# Altium integrated library Analog Devices Data Converters Digital-to-Analog Converters.IntLib: 2231 symbols (part 55 of 181)
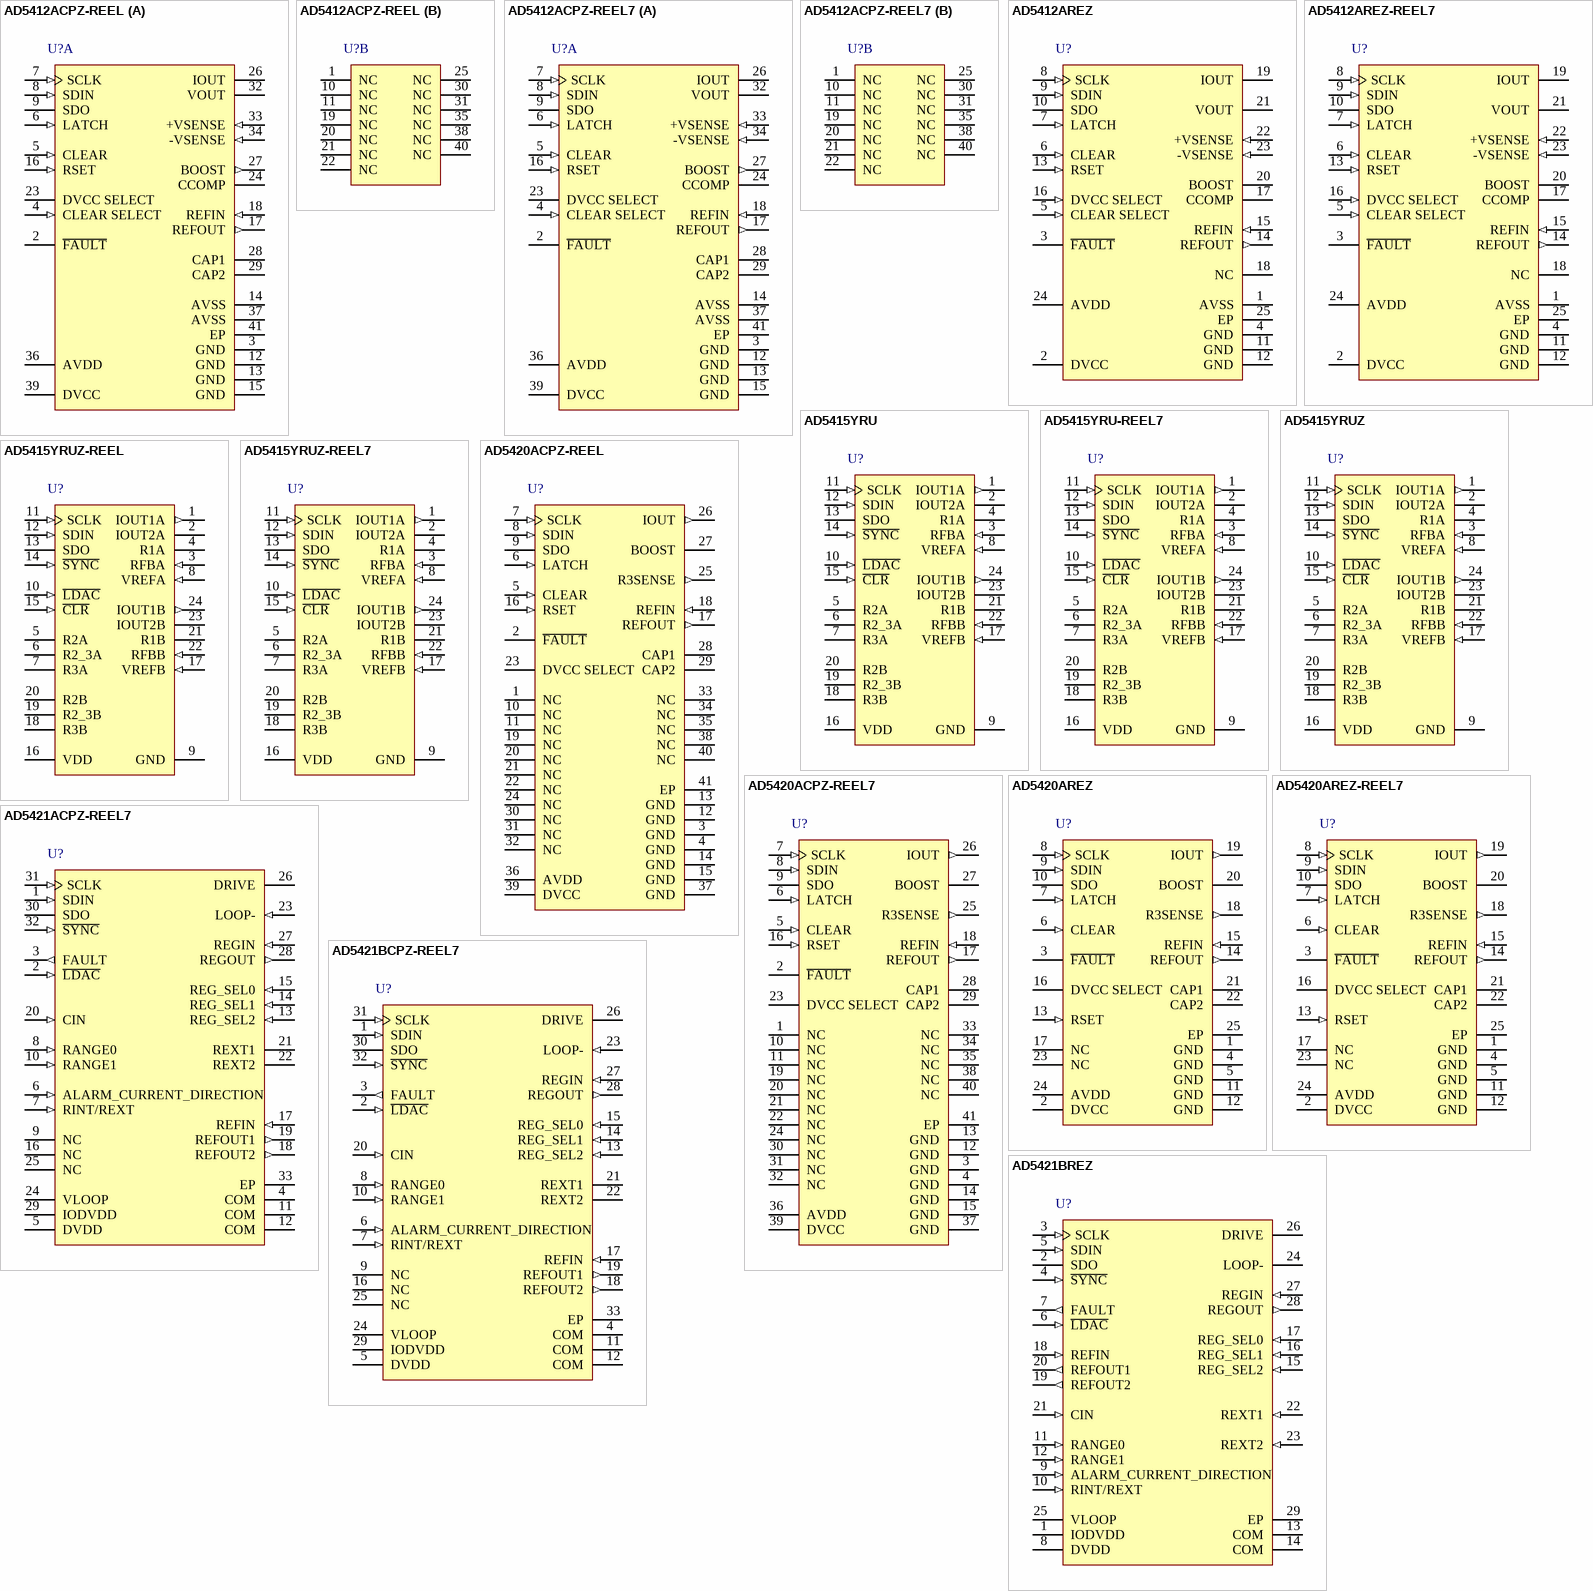
[diagram p168: symbols AD5412ACPZ-REEL to AD5421BREZ]

## AD5421ACPZ-REEL7
designator U?
Single 16-Bit Loop-Powered Digital-to-Analog Converter with Serial Interface, 4 to 20 mA, -40 to +105 degC, CP-32-11, Pb-Free, Reel; Generic Part Number: AD5421; Manufacturer: Analog Devices; PartNumber: AD5421ACPZ-REEL7; # DAC Outputs: 1; Max V+: 52V; Op Pwr Diss: 1.43mW; Resolution (Bits): 16; Settling Time: 50µs; Single Supply: Yes; DatasheetVersion: Rev.D; PackageVersion: 011708-A; PackageReference: CP-32-11; PackageDescription: 32-Lead Lead Frame Chip Scale Package [LFCSP_VQ] 5 x 5 mm Body, Very Thin Quad; Supplier 1: Digi-Key; Supplier Part Number 1: AD5421ACPZ-REEL7TR-ND; Supplier 2: Digi-Key; Supplier Part Number 2: AD5421ACPZ-REEL7CT-ND; Supplier 3: Digi-Key; Supplier Part Number 3: AD5421ACPZ-REEL7DKR-ND; Supplier 4: Farnell; Supplier Part Number 4: 2081042; Supplier 5: Newark; Supplier Part Number 5: 92T3206; Supplier 6: Newark; Supplier Part Number 6: 82T3694; Supplier 7: Mouser; Supplier Part Number 7: 584-AD5421ACPZ-R7; Packing: Reel; RoHS: Y; Mounting Technology: Surface Mount; ComponentLink1Description: Manufacturer URL; ComponentLink1URL: http://www.analog.com/en/index.html; ComponentLink2Description: Datasheet; ComponentLink2URL: http://www.analog.com/static/imported-files/data_sheets/AD5421.pdf; ComponentLink3Description: Package Specification; ComponentLink3URL: http://www.analog.com/static/imported-files/packages/PKG_PDF/LFCSP(CP)/CP-32/CP_32_11.pdf; ComponentLink4Description: Product URL; ComponentLink4URL: http://www.analog.com/en/digital-to-analog-converters/da-converters/ad5421/products/product.html
footprint CP-32-11_N (QFN, 32-Leads, Body 5x5mm, Pitch 0.5mm, Thermal Pad 3.6x3.6mm, IPC Medium Density)
footprint CP-32-11_L (QFN, 32-Leads, Body 5x5mm, Pitch 0.5mm, Thermal Pad 3.6x3.6mm, IPC High Density)
footprint CP-32-11_M (QFN, 32-Leads, Body 5x5mm, Pitch 0.5mm, Thermal Pad 3.6x3.6mm, IPC Low Density)
pins: 1 SDIN (in) "Serial Data Input. Data must be valid on the falling edge of SCLK.", 2 ~{LDAC} (in) "Load DAC Input, Active Low. This pin is used to update the DAC register and, consequently, the output current. If L\D\A\C\ is tied permanently low, the DAC register is updated on the rising edge of S\Y\N\C\. If L\D\A\C\ is (See Datasheet)", 3 FAULT (out) "Fault Alert Output Pin, Active High. This pin is asserted high when a fault is detected. Detectable faults are loss of SPI interface control, communication error (PEC), loop current out of range, insufficient loop voltage, (See Datasheet)", 4 COM (power) "Ground Reference Pin for the AD5421. It is recommended that a 4.7 V Zener diode be placed between the LOOP- and COM pins. See the Applications Information section for more information.", 5 DVDD (power) "3.3 V Digital Power Supply Output. This pin should be decoupled to COM with 100 nF and 4.7 uF capacitors.", 6 ALARM_CURRENT_DIRECTION (in) "Alarm Current Direction Select. This pin is used to select whether the alarm current is upscale (22.8 mA/24 mA) or downscale (3.2 mA). Connecting this pin to DVDD selects an upscale alarm current (22.8 mA/24 mA); connecting (See Datasheet)", 7 RINT/REXT (in) "Current Setting Resistor Select. When this pin is connected to DVDD, the internal current setting resistor is selected. When this pin is connected to COM, the external current setting resistor is selected. An external (See Datasheet)", 8 RANGE0 (in) "Digital Input Pins. These two pins select the loop current range (see the Loop Current Range Selection section).", 9 NC "No Connect. Do not connect to this pin.", 10 RANGE1 (in) "Digital Input Pins. These two pins select the loop current range (see the Loop Current Range Selection section).", 11 COM (power) "Ground Reference Pin for the AD5421. It is recommended that a 4.7 V Zener diode be placed between the LOOP- and COM pins. See the Applications Information section for more information.", 12 COM (power) "Ground Reference Pin for the AD5421. It is recommended that a 4.7 V Zener diode be placed between the LOOP- and COM pins. See the Applications Information section for more information.", 13 REG_SEL2 (in) "This pin together select the regulator output (REGOUT) voltage (see the Voltage Regulator section).", 14 REG_SEL1 (in) "This pin together select the regulator output (REGOUT) voltage (see the Voltage Regulator section).", 15 REG_SEL0 (in) "This pin together select the regulator output (REGOUT) voltage (see the Voltage Regulator section).", 16 NC "No Connect. Do not connect to this pin.", 17 REFIN (in) "Reference Voltage Input. VREFIN = 2.5 V for specified performance.", 18 REFOUT2 (out) "Internal Reference Voltage Output (1.22 V). It is recommended to connect a 100 nF capacitor from this pin to COM.", 19 REFOUT1 (out) "Internal Reference Voltage Output (2.5 V). It is recommended to connect a 100 nF capacitor from this pin to COM.", 20 CIN (in) "External Capacitor Connection and HART FSK Input. An external capacitor connected from CIN to COM implements an output slew rate control function (see the Loop Current Slew Rate Control section). HART FSK signaling can also (See Datasheet)", 21 REXT1 "Connection for External Current Setting Resistor. A precision 24 k ohm resistor can be connected between these pins for improved performance.", 22 REXT2 "Connection for External Current Setting Resistor. A precision 24 k ohm resistor can be connected between these pins for improved performance.", 23 LOOP- (in) "Loop Current Return Pin.", 24 VLOOP (power) "Voltage Input Pin. Voltage input range is 0 V to 2.5 V. The voltage applied to this pin is digitized to eight bits, which are available in the fault register. This pin can be used for general-purpose voltage monitoring, but (See Datasheet)", 25 NC "No Connect. Do not connect to this pin.", 26 DRIVE "Gate Connection for External Depletion Mode MOSFET. For more information, see the Connection to Loop Power Supply section.", 27 REGIN (in) "Voltage Regulator Input. The loop voltage can be connected directly to this pin. Or, to reduce on-chip power dissipation, an external pass transistor can be connected at this pin to stand off the loop voltage. For more (See Datasheet)", 28 REGOUT (out) "Voltage Regulator Output. Pin selectable values are from 1.8 V to 12 V via the REG_SEL0, REG_SEL1, and REG_SEL2 pins (see the Voltage Regulator section).", 29 IODVDD (power) "Digital Interface Supply Pin. Digital thresholds are referenced to the voltage applied to this pin. A voltage from 1.71 V to 5.5 V can be applied to this pin.", 30 SDO (hiz) "Serial Data Output. Used to clock data from the input shift register. Data is clocked out on the rising edge of SCLK and is valid on the falling edge of SCLK.", 31 SCLK (in) "Serial Clock Input. Data is clocked into the input shift register on the falling edge of SCLK. This input operates at clock speeds up to 30 MHz.", 32 ~{SYNC} (in) "Frame Synchronization Input, Active Low. This is the frame synchronization signal for the serial interface. When S\Y\N\C\ is low, data is transferred on the falling edge of SCLK. The input shift register data is latched on (See Datasheet)", 33 EP (power) "The exposed paddle should be connected to the same potential as the COM pin and to a copper plane for optimum thermal performance."

## AD5421BCPZ-REEL7
designator U?
Single 16-Bit Loop-Powered Digital-to-Analog Converter with Serial Interface, 4 to 20 mA, -40 to +105 degC, CP-32-11, Pb-Free, Reel; Generic Part Number: AD5421; Manufacturer: Analog Devices; PartNumber: AD5421BCPZ-REEL7; # DAC Outputs: 1; Max V+: 52V; Op Pwr Diss: 1.43mW; Resolution (Bits): 16; Settling Time: 50µs; Single Supply: Yes; DatasheetVersion: Rev.D; PackageVersion: 011708-A; PackageReference: CP-32-11; PackageDescription: 32-Lead Lead Frame Chip Scale Package [LFCSP_VQ] 5 x 5 mm Body, Very Thin Quad; Supplier 1: Digi-Key; Supplier Part Number 1: AD5421BCPZ-REEL7TR-ND; Supplier 2: Digi-Key; Supplier Part Number 2: AD5421BCPZ-REEL7CT-ND; Supplier 3: Digi-Key; Supplier Part Number 3: AD5421BCPZ-REEL7DKR-ND; Supplier 4: Farnell; Supplier Part Number 4: 2081041; Supplier 5: Farnell; Supplier Part Number 5: 2371516; Supplier 6: Newark; Supplier Part Number 6: 82T3695; Supplier 7: Newark; Supplier Part Number 7: 92T3207; Supplier 8: Mouser; Supplier Part Number 8: 584-AD5421BCPZ-R7; Packing: Reel; RoHS: Y; Mounting Technology: Surface Mount; ComponentLink1Description: Manufacturer URL; ComponentLink1URL: http://www.analog.com/en/index.html; ComponentLink2Description: Datasheet; ComponentLink2URL: http://www.analog.com/static/imported-files/data_sheets/AD5421.pdf; ComponentLink3Description: Package Specification; ComponentLink3URL: http://www.analog.com/static/imported-files/packages/PKG_PDF/LFCSP(CP)/CP-32/CP_32_11.pdf; ComponentLink4Description: Product URL; ComponentLink4URL: http://www.analog.com/en/digital-to-analog-converters/da-converters/ad5421/products/product.html
footprint CP-32-11_N (QFN, 32-Leads, Body 5x5mm, Pitch 0.5mm, Thermal Pad 3.6x3.6mm, IPC Medium Density)
footprint CP-32-11_L (QFN, 32-Leads, Body 5x5mm, Pitch 0.5mm, Thermal Pad 3.6x3.6mm, IPC High Density)
footprint CP-32-11_M (QFN, 32-Leads, Body 5x5mm, Pitch 0.5mm, Thermal Pad 3.6x3.6mm, IPC Low Density)
pins: 1 SDIN (in) "Serial Data Input. Data must be valid on the falling edge of SCLK.", 2 ~{LDAC} (in) "Load DAC Input, Active Low. This pin is used to update the DAC register and, consequently, the output current. If L\D\A\C\ is tied permanently low, the DAC register is updated on the rising edge of S\Y\N\C\. If L\D\A\C\ is (See Datasheet)", 3 FAULT (out) "Fault Alert Output Pin, Active High. This pin is asserted high when a fault is detected. Detectable faults are loss of SPI interface control, communication error (PEC), loop current out of range, insufficient loop voltage, (See Datasheet)", 4 COM (power) "Ground Reference Pin for the AD5421. It is recommended that a 4.7 V Zener diode be placed between the LOOP- and COM pins. See the Applications Information section for more information.", 5 DVDD (power) "3.3 V Digital Power Supply Output. This pin should be decoupled to COM with 100 nF and 4.7 uF capacitors.", 6 ALARM_CURRENT_DIRECTION (in) "Alarm Current Direction Select. This pin is used to select whether the alarm current is upscale (22.8 mA/24 mA) or downscale (3.2 mA). Connecting this pin to DVDD selects an upscale alarm current (22.8 mA/24 mA); connecting (See Datasheet)", 7 RINT/REXT (in) "Current Setting Resistor Select. When this pin is connected to DVDD, the internal current setting resistor is selected. When this pin is connected to COM, the external current setting resistor is selected. An external (See Datasheet)", 8 RANGE0 (in) "Digital Input Pins. These two pins select the loop current range (see the Loop Current Range Selection section).", 9 NC "No Connect. Do not connect to this pin.", 10 RANGE1 (in) "Digital Input Pins. These two pins select the loop current range (see the Loop Current Range Selection section).", 11 COM (power) "Ground Reference Pin for the AD5421. It is recommended that a 4.7 V Zener diode be placed between the LOOP- and COM pins. See the Applications Information section for more information.", 12 COM (power) "Ground Reference Pin for the AD5421. It is recommended that a 4.7 V Zener diode be placed between the LOOP- and COM pins. See the Applications Information section for more information.", 13 REG_SEL2 (in) "This pin together select the regulator output (REGOUT) voltage (see the Voltage Regulator section).", 14 REG_SEL1 (in) "This pin together select the regulator output (REGOUT) voltage (see the Voltage Regulator section).", 15 REG_SEL0 (in) "This pin together select the regulator output (REGOUT) voltage (see the Voltage Regulator section).", 16 NC "No Connect. Do not connect to this pin.", 17 REFIN (in) "Reference Voltage Input. VREFIN = 2.5 V for specified performance.", 18 REFOUT2 (out) "Internal Reference Voltage Output (1.22 V). It is recommended to connect a 100 nF capacitor from this pin to COM.", 19 REFOUT1 (out) "Internal Reference Voltage Output (2.5 V). It is recommended to connect a 100 nF capacitor from this pin to COM.", 20 CIN (in) "External Capacitor Connection and HART FSK Input. An external capacitor connected from CIN to COM implements an output slew rate control function (see the Loop Current Slew Rate Control section). HART FSK signaling can also (See Datasheet)", 21 REXT1 "Connection for External Current Setting Resistor. A precision 24 k ohm resistor can be connected between these pins for improved performance.", 22 REXT2 "Connection for External Current Setting Resistor. A precision 24 k ohm resistor can be connected between these pins for improved performance.", 23 LOOP- (in) "Loop Current Return Pin.", 24 VLOOP (power) "Voltage Input Pin. Voltage input range is 0 V to 2.5 V. The voltage applied to this pin is digitized to eight bits, which are available in the fault register. This pin can be used for general-purpose voltage monitoring, but (See Datasheet)", 25 NC "No Connect. Do not connect to this pin.", 26 DRIVE "Gate Connection for External Depletion Mode MOSFET. For more information, see the Connection to Loop Power Supply section.", 27 REGIN (in) "Voltage Regulator Input. The loop voltage can be connected directly to this pin. Or, to reduce on-chip power dissipation, an external pass transistor can be connected at this pin to stand off the loop voltage. For more (See Datasheet)", 28 REGOUT (out) "Voltage Regulator Output. Pin selectable values are from 1.8 V to 12 V via the REG_SEL0, REG_SEL1, and REG_SEL2 pins (see the Voltage Regulator section).", 29 IODVDD (power) "Digital Interface Supply Pin. Digital thresholds are referenced to the voltage applied to this pin. A voltage from 1.71 V to 5.5 V can be applied to this pin.", 30 SDO (hiz) "Serial Data Output. Used to clock data from the input shift register. Data is clocked out on the rising edge of SCLK and is valid on the falling edge of SCLK.", 31 SCLK (in) "Serial Clock Input. Data is clocked into the input shift register on the falling edge of SCLK. This input operates at clock speeds up to 30 MHz.", 32 ~{SYNC} (in) "Frame Synchronization Input, Active Low. This is the frame synchronization signal for the serial interface. When S\Y\N\C\ is low, data is transferred on the falling edge of SCLK. The input shift register data is latched on (See Datasheet)", 33 EP (power) "The exposed paddle should be connected to the same potential as the COM pin and to a copper plane for optimum thermal performance."

## AD5421BREZ
designator U?
Single 16-Bit Loop-Powered Digital-to-Analog Converter with Serial Interface, 4 to 20 mA, -40 to +105 degC, RE-28-2, Pb-Free, Tube; Generic Part Number: AD5421; Manufacturer: Analog Devices; PartNumber: AD5421BREZ; # DAC Outputs: 1; Max V+: 52V; Op Pwr Diss: 1.43mW; Resolution (Bits): 16; Settling Time: 50µs; Single Supply: Yes; DatasheetVersion: Rev.D; PackageVersion: May-2006; PackageReference: RE-28-2; PackageDescription: 28-Lead Thin Shrink Small Outline with Exposed Pad [TSSOP_EP]; Supplier 1: Digi-Key; Supplier Part Number 1: AD5421BREZ-ND; Supplier 2: Farnell; Supplier Part Number 2: 2081038; Supplier 3: Newark; Supplier Part Number 3: 27T3838; Supplier 4: Newark; Supplier Part Number 4: 83T2171; Supplier 5: Mouser; Supplier Part Number 5: 584-AD5421BREZ; Packing: Tube; RoHS: Y; Mounting Technology: Surface Mount; Code_JEDEC: MO-153-AET; ComponentLink1Description: Manufacturer URL; ComponentLink1URL: http://www.analog.com/en/index.html; ComponentLink2Description: Datasheet; ComponentLink2URL: http://www.analog.com/static/imported-files/data_sheets/AD5421.pdf; ComponentLink3Description: Package Specification; ComponentLink3URL: http://www.analog.com/static/imported-files/packages/PKG_PDF/TSSOP_EP(RE)/RE_28_2.pdf; ComponentLink4Description: Product URL; ComponentLink4URL: http://www.analog.com/en/digital-to-analog-converters/da-converters/ad5421/products/product.html
footprint RE-28-2_N (TSOP, 28-Leads, Body 9.7x4.4mm, Pitch 0.65mm, Thermal Pad 5.5x3.0mm, IPC Medium Density)
footprint RE-28-2_L (TSOP, 28-Leads, Body 9.7x4.4mm, Pitch 0.65mm, Thermal Pad 5.5x3.0mm, IPC High Density)
footprint RE-28-2_M (TSOP, 28-Leads, Body 9.7x4.4mm, Pitch 0.65mm, Thermal Pad 5.5x3.0mm, IPC Low Density)
pins: 1 IODVDD (power) "Digital Interface Supply Pin. Digital thresholds are referenced to the voltage applied to this pin. A voltage from 1.71 V to 5.5 V can be applied to this pin.", 2 SDO (hiz) "Serial Data Output. Used to clock data from the input shift register. Data is clocked out on the rising edge of SCLK and is valid on the falling edge of SCLK.", 3 SCLK (in) "Serial Clock Input. Data is clocked into the input shift register on the falling edge of SCLK. This input operates at clock speeds up to 30 MHz.", 4 ~{SYNC} (in) "Frame Synchronization Input, Active Low. This is the frame synchronization signal for the serial interface. When S\Y\N\C\ is low, data is transferred on the falling edge of SCLK. The input shift register data is latched on (See Datasheet)", 5 SDIN (in) "Serial Data Input. Data must be valid on the falling edge of SCLK.", 6 ~{LDAC} (in) "Load DAC Input, Active Low. This pin is used to update the DAC register and, consequently, the output current. If L\D\A\C\ is tied permanently low, the DAC register is updated on the rising edge of S\Y\N\C\. If L\D\A\C\ is (See Datasheet)", 7 FAULT (out) "Fault Alert Output Pin, Active High. This pin is asserted high when a fault is detected. Detectable faults are loss of SPI interface control, communication error (PEC), loop current out of range, insufficient loop voltage, (See Datasheet)", 8 DVDD (power) "3.3 V Digital Power Supply Output. This pin should be decoupled to COM with 100 nF and 4.7 uF capacitors.", 9 ALARM_CURRENT_DIRECTION (in) "Alarm Current Direction Select. This pin is used to select whether the alarm current is upscale (22.8 mA/24 mA) or downscale (3.2 mA). Connecting this pin to DVDD selects an upscale alarm current (22.8 mA/24 mA); connecting (See Datasheet)", 10 RINT/REXT (in) "Current Setting Resistor Select. When this pin is connected to DVDD, the internal current setting resistor is selected. When this pin is connected to COM, the external current setting resistor is selected. An external (See Datasheet)", 11 RANGE0 (in) "Digital Input Pins. These two pins select the loop current range (see the Loop Current Range Selection section).", 12 RANGE1 (in) "Digital Input Pins. These two pins select the loop current range (see the Loop Current Range Selection section).", 13 COM (power) "Ground Reference Pin for the AD5421. It is recommended that a 4.7 V Zener diode be placed between the LOOP- and COM pins. See the Applications Information section for more information.", 14 COM (power) "Ground Reference Pin for the AD5421. It is recommended that a 4.7 V Zener diode be placed between the LOOP- and COM pins. See the Applications Information section for more information.", 15 REG_SEL2 (in) "These three pins together select the regulator output (REGOUT) voltage (see the Voltage Regulator section).", 16 REG_SEL1 (in) "These three pins together select the regulator output (REGOUT) voltage (see the Voltage Regulator section).", 17 REG_SEL0 (in) "These three pins together select the regulator output (REGOUT) voltage (see the Voltage Regulator section).", 18 REFIN (in) "Reference Voltage Input. VREFIN = 2.5 V for specified performance.", 19 REFOUT2 (out) "Internal Reference Voltage Output (1.22 V). It is recommended to connect a 100 nF capacitor from this pin to COM.", 20 REFOUT1 (out) "Internal Reference Voltage Output (2.5 V). It is recommended to connect a 100 nF capacitor from this pin to COM.", 21 CIN (in) "External Capacitor Connection and HART FSK Input. An external capacitor connected from CIN to COM implements an output slew rate control function (see the Loop Current Slew Rate Control section). HART FSK signaling can also (See Datasheet)", 22 REXT1 (in) "Connection for External Current Setting Resistor. A precision 24 k ohm resistor can be connected between these pins for improved performance.", 23 REXT2 (in) "Connection for External Current Setting Resistor. A precision 24 k ohm resistor can be connected between these pins for improved performance.", 24 LOOP- "Loop Current Return Pin.", 25 VLOOP (power) "Voltage Input Pin. Voltage input range is 0 V to 2.5 V. The voltage applied to this pin is digitized to eight bits, which are available in the fault register. This pin can be used for general-purpose voltage monitoring, but (See Datasheet)", 26 DRIVE "Gate Connection for External Depletion Mode MOSFET. For more information, see the Connection to Loop Power Supply section.", 27 REGIN (in) "Voltage Regulator Input. The loop voltage can be connected directly to this pin. Or, to reduce on-chip power dissipation, an external pass transistor can be connected at this pin to stand off the loop voltage. For more (See Datasheet)", 28 REGOUT (out) "Voltage Regulator Output. Pin selectable values are from 1.8 V to 12 V via the REG_SEL0, REG_SEL1, and REG_SEL2 pins (see the Voltage Regulator section).", 29 EP (power) "The exposed paddle should be connected to the same potential as the COM pin and to a copper plane for optimum thermal performance."

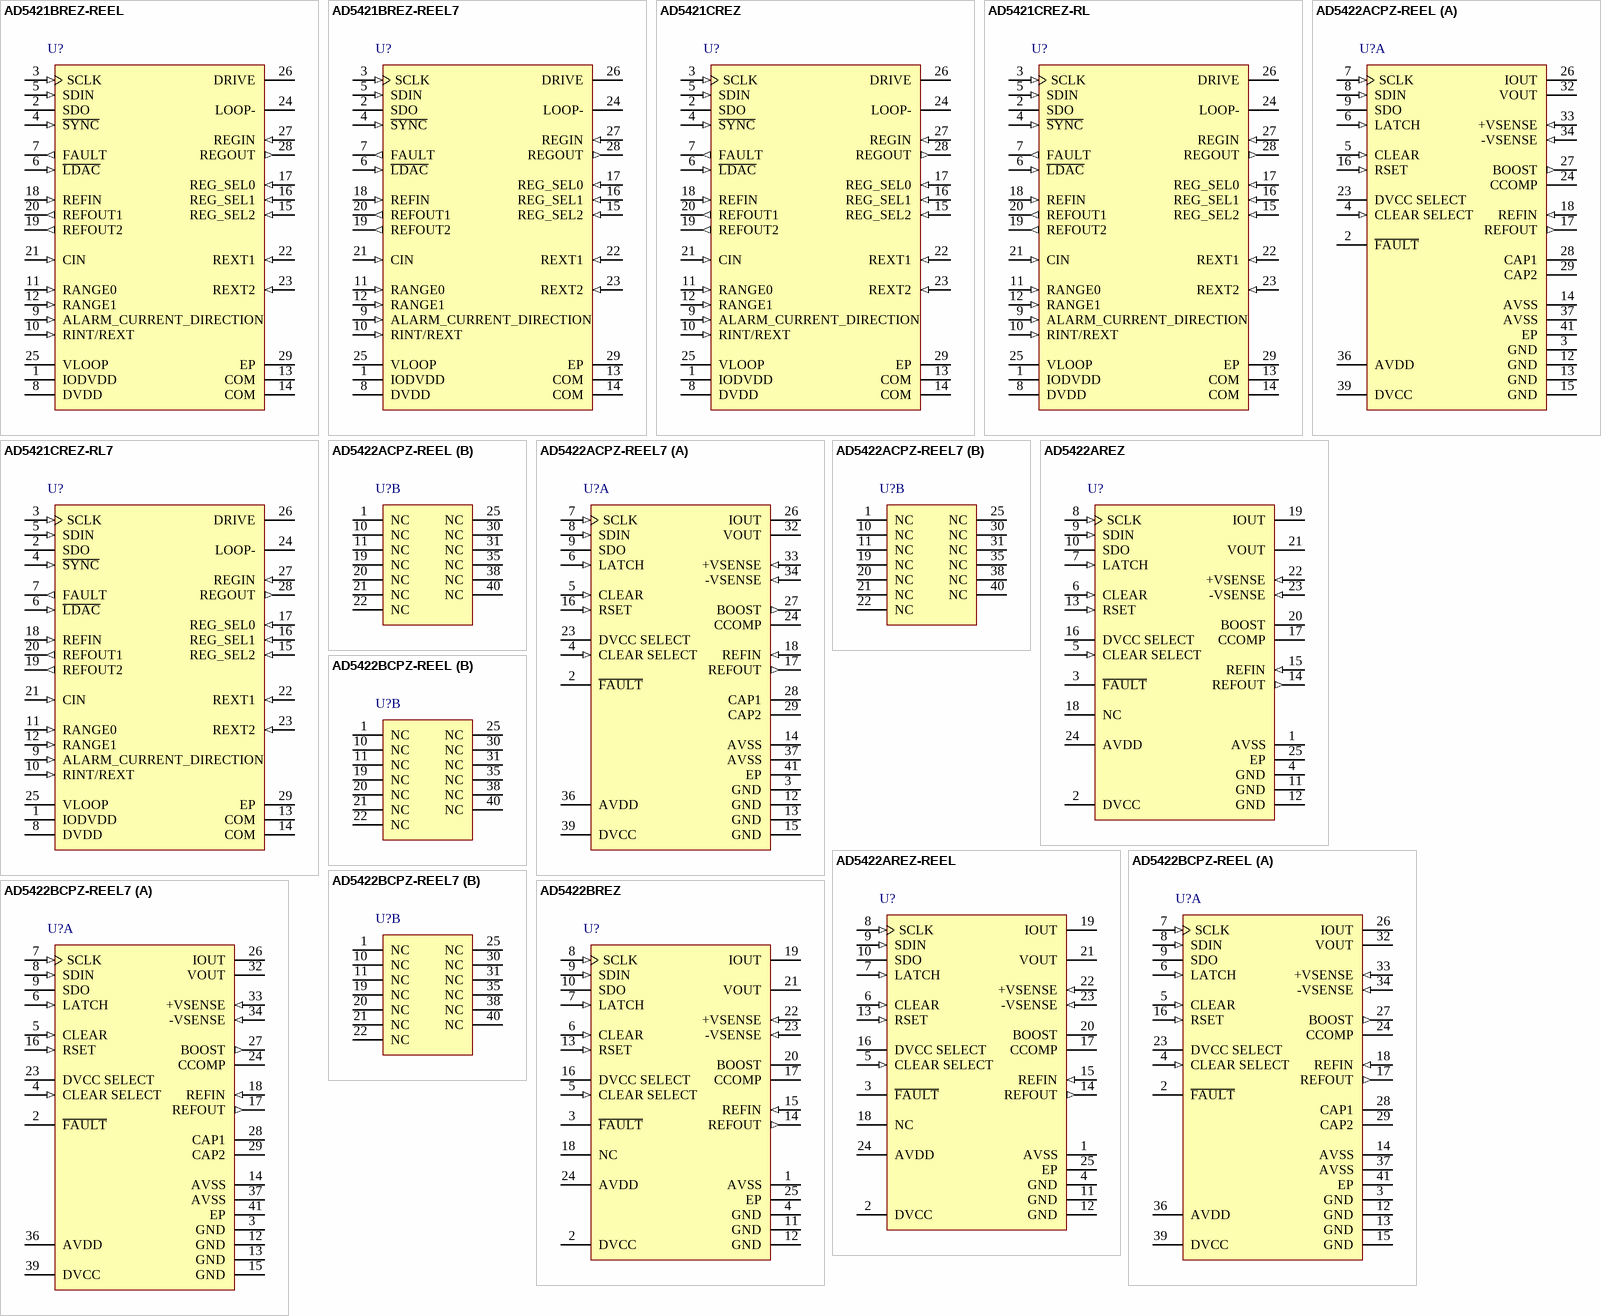
[diagram p30: symbols AD5421BREZ-REEL to AD5422BREZ]

## AD5421BREZ-REEL
designator U?
Single 16-Bit Loop-Powered Digital-to-Analog Converter with Serial Interface, 4 to 20 mA, -40 to +105 degC, RE-28-2, Pb-Free, Reel; Generic Part Number: AD5421; Manufacturer: Analog Devices; PartNumber: AD5421BREZ-REEL; # DAC Outputs: 1; Max V+: 52V; Op Pwr Diss: 1.43mW; Resolution (Bits): 16; Settling Time: 50µs; Single Supply: Yes; DatasheetVersion: Rev.D; PackageVersion: May-2006; PackageReference: RE-28-2; PackageDescription: 28-Lead Thin Shrink Small Outline with Exposed Pad [TSSOP_EP]; Supplier 1: Digi-Key; Supplier Part Number 1: AD5421BREZ-REEL-ND; Supplier 2: Mouser; Supplier Part Number 2: 584-AD5421BREZ-R; Packing: Reel; RoHS: Y; Mounting Technology: Surface Mount; Code_JEDEC: MO-153-AET; ComponentLink1Description: Manufacturer URL; ComponentLink1URL: http://www.analog.com/en/index.html; ComponentLink2Description: Datasheet; ComponentLink2URL: http://www.analog.com/static/imported-files/data_sheets/AD5421.pdf; ComponentLink3Description: Package Specification; ComponentLink3URL: http://www.analog.com/static/imported-files/packages/PKG_PDF/TSSOP_EP(RE)/RE_28_2.pdf; ComponentLink4Description: Product URL; ComponentLink4URL: http://www.analog.com/en/digital-to-analog-converters/da-converters/ad5421/products/product.html
footprint RE-28-2_N (TSOP, 28-Leads, Body 9.7x4.4mm, Pitch 0.65mm, Thermal Pad 5.5x3.0mm, IPC Medium Density)
footprint RE-28-2_L (TSOP, 28-Leads, Body 9.7x4.4mm, Pitch 0.65mm, Thermal Pad 5.5x3.0mm, IPC High Density)
footprint RE-28-2_M (TSOP, 28-Leads, Body 9.7x4.4mm, Pitch 0.65mm, Thermal Pad 5.5x3.0mm, IPC Low Density)
pins: 1 IODVDD (power) "Digital Interface Supply Pin. Digital thresholds are referenced to the voltage applied to this pin. A voltage from 1.71 V to 5.5 V can be applied to this pin.", 2 SDO (hiz) "Serial Data Output. Used to clock data from the input shift register. Data is clocked out on the rising edge of SCLK and is valid on the falling edge of SCLK.", 3 SCLK (in) "Serial Clock Input. Data is clocked into the input shift register on the falling edge of SCLK. This input operates at clock speeds up to 30 MHz.", 4 ~{SYNC} (in) "Frame Synchronization Input, Active Low. This is the frame synchronization signal for the serial interface. When S\Y\N\C\ is low, data is transferred on the falling edge of SCLK. The input shift register data is latched on (See Datasheet)", 5 SDIN (in) "Serial Data Input. Data must be valid on the falling edge of SCLK.", 6 ~{LDAC} (in) "Load DAC Input, Active Low. This pin is used to update the DAC register and, consequently, the output current. If L\D\A\C\ is tied permanently low, the DAC register is updated on the rising edge of S\Y\N\C\. If L\D\A\C\ is (See Datasheet)", 7 FAULT (out) "Fault Alert Output Pin, Active High. This pin is asserted high when a fault is detected. Detectable faults are loss of SPI interface control, communication error (PEC), loop current out of range, insufficient loop voltage, (See Datasheet)", 8 DVDD (power) "3.3 V Digital Power Supply Output. This pin should be decoupled to COM with 100 nF and 4.7 uF capacitors.", 9 ALARM_CURRENT_DIRECTION (in) "Alarm Current Direction Select. This pin is used to select whether the alarm current is upscale (22.8 mA/24 mA) or downscale (3.2 mA). Connecting this pin to DVDD selects an upscale alarm current (22.8 mA/24 mA); connecting (See Datasheet)", 10 RINT/REXT (in) "Current Setting Resistor Select. When this pin is connected to DVDD, the internal current setting resistor is selected. When this pin is connected to COM, the external current setting resistor is selected. An external (See Datasheet)", 11 RANGE0 (in) "Digital Input Pins. These two pins select the loop current range (see the Loop Current Range Selection section).", 12 RANGE1 (in) "Digital Input Pins. These two pins select the loop current range (see the Loop Current Range Selection section).", 13 COM (power) "Ground Reference Pin for the AD5421. It is recommended that a 4.7 V Zener diode be placed between the LOOP- and COM pins. See the Applications Information section for more information.", 14 COM (power) "Ground Reference Pin for the AD5421. It is recommended that a 4.7 V Zener diode be placed between the LOOP- and COM pins. See the Applications Information section for more information.", 15 REG_SEL2 (in) "These three pins together select the regulator output (REGOUT) voltage (see the Voltage Regulator section).", 16 REG_SEL1 (in) "These three pins together select the regulator output (REGOUT) voltage (see the Voltage Regulator section).", 17 REG_SEL0 (in) "These three pins together select the regulator output (REGOUT) voltage (see the Voltage Regulator section).", 18 REFIN (in) "Reference Voltage Input. VREFIN = 2.5 V for specified performance.", 19 REFOUT2 (out) "Internal Reference Voltage Output (1.22 V). It is recommended to connect a 100 nF capacitor from this pin to COM.", 20 REFOUT1 (out) "Internal Reference Voltage Output (2.5 V). It is recommended to connect a 100 nF capacitor from this pin to COM.", 21 CIN (in) "External Capacitor Connection and HART FSK Input. An external capacitor connected from CIN to COM implements an output slew rate control function (see the Loop Current Slew Rate Control section). HART FSK signaling can also (See Datasheet)", 22 REXT1 (in) "Connection for External Current Setting Resistor. A precision 24 k ohm resistor can be connected between these pins for improved performance.", 23 REXT2 (in) "Connection for External Current Setting Resistor. A precision 24 k ohm resistor can be connected between these pins for improved performance.", 24 LOOP- "Loop Current Return Pin.", 25 VLOOP (power) "Voltage Input Pin. Voltage input range is 0 V to 2.5 V. The voltage applied to this pin is digitized to eight bits, which are available in the fault register. This pin can be used for general-purpose voltage monitoring, but (See Datasheet)", 26 DRIVE "Gate Connection for External Depletion Mode MOSFET. For more information, see the Connection to Loop Power Supply section.", 27 REGIN (in) "Voltage Regulator Input. The loop voltage can be connected directly to this pin. Or, to reduce on-chip power dissipation, an external pass transistor can be connected at this pin to stand off the loop voltage. For more (See Datasheet)", 28 REGOUT (out) "Voltage Regulator Output. Pin selectable values are from 1.8 V to 12 V via the REG_SEL0, REG_SEL1, and REG_SEL2 pins (see the Voltage Regulator section).", 29 EP (power) "The exposed paddle should be connected to the same potential as the COM pin and to a copper plane for optimum thermal performance."

## AD5421BREZ-REEL7
designator U?
Single 16-Bit Loop-Powered Digital-to-Analog Converter with Serial Interface, 4 to 20 mA, -40 to +105 degC, RE-28-2, Pb-Free, Reel; Generic Part Number: AD5421; Manufacturer: Analog Devices; PartNumber: AD5421BREZ-REEL7; # DAC Outputs: 1; Max V+: 52V; Op Pwr Diss: 1.43mW; Resolution (Bits): 16; Settling Time: 50µs; Single Supply: Yes; DatasheetVersion: Rev.D; PackageVersion: May-2006; PackageReference: RE-28-2; PackageDescription: 28-Lead Thin Shrink Small Outline with Exposed Pad [TSSOP_EP]; Supplier 1: Digi-Key; Supplier Part Number 1: AD5421BREZ-REEL7-ND; Supplier 2: Mouser; Supplier Part Number 2: 584-AD5421BREZ-R7; Packing: Reel; RoHS: Y; Mounting Technology: Surface Mount; Code_JEDEC: MO-153-AET; ComponentLink1Description: Manufacturer URL; ComponentLink1URL: http://www.analog.com/en/index.html; ComponentLink2Description: Datasheet; ComponentLink2URL: http://www.analog.com/static/imported-files/data_sheets/AD5421.pdf; ComponentLink3Description: Package Specification; ComponentLink3URL: http://www.analog.com/static/imported-files/packages/PKG_PDF/TSSOP_EP(RE)/RE_28_2.pdf; ComponentLink4Description: Product URL; ComponentLink4URL: http://www.analog.com/en/digital-to-analog-converters/da-converters/ad5421/products/product.html
footprint RE-28-2_N (TSOP, 28-Leads, Body 9.7x4.4mm, Pitch 0.65mm, Thermal Pad 5.5x3.0mm, IPC Medium Density)
footprint RE-28-2_L (TSOP, 28-Leads, Body 9.7x4.4mm, Pitch 0.65mm, Thermal Pad 5.5x3.0mm, IPC High Density)
footprint RE-28-2_M (TSOP, 28-Leads, Body 9.7x4.4mm, Pitch 0.65mm, Thermal Pad 5.5x3.0mm, IPC Low Density)
pins: 1 IODVDD (power) "Digital Interface Supply Pin. Digital thresholds are referenced to the voltage applied to this pin. A voltage from 1.71 V to 5.5 V can be applied to this pin.", 2 SDO (hiz) "Serial Data Output. Used to clock data from the input shift register. Data is clocked out on the rising edge of SCLK and is valid on the falling edge of SCLK.", 3 SCLK (in) "Serial Clock Input. Data is clocked into the input shift register on the falling edge of SCLK. This input operates at clock speeds up to 30 MHz.", 4 ~{SYNC} (in) "Frame Synchronization Input, Active Low. This is the frame synchronization signal for the serial interface. When S\Y\N\C\ is low, data is transferred on the falling edge of SCLK. The input shift register data is latched on (See Datasheet)", 5 SDIN (in) "Serial Data Input. Data must be valid on the falling edge of SCLK.", 6 ~{LDAC} (in) "Load DAC Input, Active Low. This pin is used to update the DAC register and, consequently, the output current. If L\D\A\C\ is tied permanently low, the DAC register is updated on the rising edge of S\Y\N\C\. If L\D\A\C\ is (See Datasheet)", 7 FAULT (out) "Fault Alert Output Pin, Active High. This pin is asserted high when a fault is detected. Detectable faults are loss of SPI interface control, communication error (PEC), loop current out of range, insufficient loop voltage, (See Datasheet)", 8 DVDD (power) "3.3 V Digital Power Supply Output. This pin should be decoupled to COM with 100 nF and 4.7 uF capacitors.", 9 ALARM_CURRENT_DIRECTION (in) "Alarm Current Direction Select. This pin is used to select whether the alarm current is upscale (22.8 mA/24 mA) or downscale (3.2 mA). Connecting this pin to DVDD selects an upscale alarm current (22.8 mA/24 mA); connecting (See Datasheet)", 10 RINT/REXT (in) "Current Setting Resistor Select. When this pin is connected to DVDD, the internal current setting resistor is selected. When this pin is connected to COM, the external current setting resistor is selected. An external (See Datasheet)", 11 RANGE0 (in) "Digital Input Pins. These two pins select the loop current range (see the Loop Current Range Selection section).", 12 RANGE1 (in) "Digital Input Pins. These two pins select the loop current range (see the Loop Current Range Selection section).", 13 COM (power) "Ground Reference Pin for the AD5421. It is recommended that a 4.7 V Zener diode be placed between the LOOP- and COM pins. See the Applications Information section for more information.", 14 COM (power) "Ground Reference Pin for the AD5421. It is recommended that a 4.7 V Zener diode be placed between the LOOP- and COM pins. See the Applications Information section for more information.", 15 REG_SEL2 (in) "These three pins together select the regulator output (REGOUT) voltage (see the Voltage Regulator section).", 16 REG_SEL1 (in) "These three pins together select the regulator output (REGOUT) voltage (see the Voltage Regulator section).", 17 REG_SEL0 (in) "These three pins together select the regulator output (REGOUT) voltage (see the Voltage Regulator section).", 18 REFIN (in) "Reference Voltage Input. VREFIN = 2.5 V for specified performance.", 19 REFOUT2 (out) "Internal Reference Voltage Output (1.22 V). It is recommended to connect a 100 nF capacitor from this pin to COM.", 20 REFOUT1 (out) "Internal Reference Voltage Output (2.5 V). It is recommended to connect a 100 nF capacitor from this pin to COM.", 21 CIN (in) "External Capacitor Connection and HART FSK Input. An external capacitor connected from CIN to COM implements an output slew rate control function (see the Loop Current Slew Rate Control section). HART FSK signaling can also (See Datasheet)", 22 REXT1 (in) "Connection for External Current Setting Resistor. A precision 24 k ohm resistor can be connected between these pins for improved performance.", 23 REXT2 (in) "Connection for External Current Setting Resistor. A precision 24 k ohm resistor can be connected between these pins for improved performance.", 24 LOOP- "Loop Current Return Pin.", 25 VLOOP (power) "Voltage Input Pin. Voltage input range is 0 V to 2.5 V. The voltage applied to this pin is digitized to eight bits, which are available in the fault register. This pin can be used for general-purpose voltage monitoring, but (See Datasheet)", 26 DRIVE "Gate Connection for External Depletion Mode MOSFET. For more information, see the Connection to Loop Power Supply section.", 27 REGIN (in) "Voltage Regulator Input. The loop voltage can be connected directly to this pin. Or, to reduce on-chip power dissipation, an external pass transistor can be connected at this pin to stand off the loop voltage. For more (See Datasheet)", 28 REGOUT (out) "Voltage Regulator Output. Pin selectable values are from 1.8 V to 12 V via the REG_SEL0, REG_SEL1, and REG_SEL2 pins (see the Voltage Regulator section).", 29 EP (power) "The exposed paddle should be connected to the same potential as the COM pin and to a copper plane for optimum thermal performance."

## AD5421CREZ
designator U?
Single 16-Bit Loop-Powered Digital-to-Analog Converter with Serial Interface, 4 to 20 mA, -40 to +105 degC, RE-28-2, Pb-Free, Tube; Generic Part Number: AD5421; Manufacturer: Analog Devices; PartNumber: AD5421CREZ; # DAC Outputs: 1; Max V+: 52V; Op Pwr Diss: 1.43mW; Resolution (Bits): 16; Settling Time: 50µs; Single Supply: Yes; DatasheetVersion: Rev.D; PackageVersion: May-2006; PackageReference: RE-28-2; PackageDescription: 28-Lead Thin Shrink Small Outline with Exposed Pad [TSSOP_EP]; Supplier 1: Digi-Key; Supplier Part Number 1: AD5421CREZ-ND; Supplier 2: Farnell; Supplier Part Number 2: 2081037; Supplier 3: Newark; Supplier Part Number 3: 39T6553; Supplier 4: Newark; Supplier Part Number 4: 83T2172; Supplier 5: Mouser; Supplier Part Number 5: 584-AD5421CREZ; Packing: Tube; RoHS: Y; Mounting Technology: Surface Mount; Code_JEDEC: MO-153-AET; ComponentLink1Description: Manufacturer URL; ComponentLink1URL: http://www.analog.com/en/index.html; ComponentLink2Description: Datasheet; ComponentLink2URL: http://www.analog.com/static/imported-files/data_sheets/AD5421.pdf; ComponentLink3Description: Package Specification; ComponentLink3URL: http://www.analog.com/static/imported-files/packages/PKG_PDF/TSSOP_EP(RE)/RE_28_2.pdf; ComponentLink4Description: Product URL; ComponentLink4URL: http://www.analog.com/en/digital-to-analog-converters/da-converters/ad5421/products/product.html
footprint RE-28-2_N (TSOP, 28-Leads, Body 9.7x4.4mm, Pitch 0.65mm, Thermal Pad 5.5x3.0mm, IPC Medium Density)
footprint RE-28-2_L (TSOP, 28-Leads, Body 9.7x4.4mm, Pitch 0.65mm, Thermal Pad 5.5x3.0mm, IPC High Density)
footprint RE-28-2_M (TSOP, 28-Leads, Body 9.7x4.4mm, Pitch 0.65mm, Thermal Pad 5.5x3.0mm, IPC Low Density)
pins: 1 IODVDD (power) "Digital Interface Supply Pin. Digital thresholds are referenced to the voltage applied to this pin. A voltage from 1.71 V to 5.5 V can be applied to this pin.", 2 SDO (hiz) "Serial Data Output. Used to clock data from the input shift register. Data is clocked out on the rising edge of SCLK and is valid on the falling edge of SCLK.", 3 SCLK (in) "Serial Clock Input. Data is clocked into the input shift register on the falling edge of SCLK. This input operates at clock speeds up to 30 MHz.", 4 ~{SYNC} (in) "Frame Synchronization Input, Active Low. This is the frame synchronization signal for the serial interface. When S\Y\N\C\ is low, data is transferred on the falling edge of SCLK. The input shift register data is latched on (See Datasheet)", 5 SDIN (in) "Serial Data Input. Data must be valid on the falling edge of SCLK.", 6 ~{LDAC} (in) "Load DAC Input, Active Low. This pin is used to update the DAC register and, consequently, the output current. If L\D\A\C\ is tied permanently low, the DAC register is updated on the rising edge of S\Y\N\C\. If L\D\A\C\ is (See Datasheet)", 7 FAULT (out) "Fault Alert Output Pin, Active High. This pin is asserted high when a fault is detected. Detectable faults are loss of SPI interface control, communication error (PEC), loop current out of range, insufficient loop voltage, (See Datasheet)", 8 DVDD (power) "3.3 V Digital Power Supply Output. This pin should be decoupled to COM with 100 nF and 4.7 uF capacitors.", 9 ALARM_CURRENT_DIRECTION (in) "Alarm Current Direction Select. This pin is used to select whether the alarm current is upscale (22.8 mA/24 mA) or downscale (3.2 mA). Connecting this pin to DVDD selects an upscale alarm current (22.8 mA/24 mA); connecting (See Datasheet)", 10 RINT/REXT (in) "Current Setting Resistor Select. When this pin is connected to DVDD, the internal current setting resistor is selected. When this pin is connected to COM, the external current setting resistor is selected. An external (See Datasheet)", 11 RANGE0 (in) "Digital Input Pins. These two pins select the loop current range (see the Loop Current Range Selection section).", 12 RANGE1 (in) "Digital Input Pins. These two pins select the loop current range (see the Loop Current Range Selection section).", 13 COM (power) "Ground Reference Pin for the AD5421. It is recommended that a 4.7 V Zener diode be placed between the LOOP- and COM pins. See the Applications Information section for more information.", 14 COM (power) "Ground Reference Pin for the AD5421. It is recommended that a 4.7 V Zener diode be placed between the LOOP- and COM pins. See the Applications Information section for more information.", 15 REG_SEL2 (in) "These three pins together select the regulator output (REGOUT) voltage (see the Voltage Regulator section).", 16 REG_SEL1 (in) "These three pins together select the regulator output (REGOUT) voltage (see the Voltage Regulator section).", 17 REG_SEL0 (in) "These three pins together select the regulator output (REGOUT) voltage (see the Voltage Regulator section).", 18 REFIN (in) "Reference Voltage Input. VREFIN = 2.5 V for specified performance.", 19 REFOUT2 (out) "Internal Reference Voltage Output (1.22 V). It is recommended to connect a 100 nF capacitor from this pin to COM.", 20 REFOUT1 (out) "Internal Reference Voltage Output (2.5 V). It is recommended to connect a 100 nF capacitor from this pin to COM.", 21 CIN (in) "External Capacitor Connection and HART FSK Input. An external capacitor connected from CIN to COM implements an output slew rate control function (see the Loop Current Slew Rate Control section). HART FSK signaling can also (See Datasheet)", 22 REXT1 (in) "Connection for External Current Setting Resistor. A precision 24 k ohm resistor can be connected between these pins for improved performance.", 23 REXT2 (in) "Connection for External Current Setting Resistor. A precision 24 k ohm resistor can be connected between these pins for improved performance.", 24 LOOP- "Loop Current Return Pin.", 25 VLOOP (power) "Voltage Input Pin. Voltage input range is 0 V to 2.5 V. The voltage applied to this pin is digitized to eight bits, which are available in the fault register. This pin can be used for general-purpose voltage monitoring, but (See Datasheet)", 26 DRIVE "Gate Connection for External Depletion Mode MOSFET. For more information, see the Connection to Loop Power Supply section.", 27 REGIN (in) "Voltage Regulator Input. The loop voltage can be connected directly to this pin. Or, to reduce on-chip power dissipation, an external pass transistor can be connected at this pin to stand off the loop voltage. For more (See Datasheet)", 28 REGOUT (out) "Voltage Regulator Output. Pin selectable values are from 1.8 V to 12 V via the REG_SEL0, REG_SEL1, and REG_SEL2 pins (see the Voltage Regulator section).", 29 EP (power) "The exposed paddle should be connected to the same potential as the COM pin and to a copper plane for optimum thermal performance."

## AD5421CREZ-RL
designator U?
Single 16-Bit Loop-Powered Digital-to-Analog Converter with Serial Interface, 4 to 20 mA, -40 to +105 degC, RE-28-2, Pb-Free, Reel; Generic Part Number: AD5421; Manufacturer: Analog Devices; PartNumber: AD5421CREZ-RL; # DAC Outputs: 1; Max V+: 52V; Op Pwr Diss: 1.43mW; Resolution (Bits): 16; Settling Time: 50µs; Single Supply: Yes; DatasheetVersion: Rev.D; PackageVersion: May-2006; PackageReference: RE-28-2; PackageDescription: 28-Lead Thin Shrink Small Outline with Exposed Pad [TSSOP_EP]; Supplier 1: Digi-Key; Supplier Part Number 1: AD5421CREZ-RL-ND; Supplier 2: Mouser; Supplier Part Number 2: 584-AD5421CREZ-R; Packing: Reel; RoHS: Y; Mounting Technology: Surface Mount; Code_JEDEC: MO-153-AET; ComponentLink1Description: Manufacturer URL; ComponentLink1URL: http://www.analog.com/en/index.html; ComponentLink2Description: Datasheet; ComponentLink2URL: http://www.analog.com/static/imported-files/data_sheets/AD5421.pdf; ComponentLink3Description: Package Specification; ComponentLink3URL: http://www.analog.com/static/imported-files/packages/PKG_PDF/TSSOP_EP(RE)/RE_28_2.pdf; ComponentLink4Description: Product URL; ComponentLink4URL: http://www.analog.com/en/digital-to-analog-converters/da-converters/ad5421/products/product.html
footprint RE-28-2_N (TSOP, 28-Leads, Body 9.7x4.4mm, Pitch 0.65mm, Thermal Pad 5.5x3.0mm, IPC Medium Density)
footprint RE-28-2_L (TSOP, 28-Leads, Body 9.7x4.4mm, Pitch 0.65mm, Thermal Pad 5.5x3.0mm, IPC High Density)
footprint RE-28-2_M (TSOP, 28-Leads, Body 9.7x4.4mm, Pitch 0.65mm, Thermal Pad 5.5x3.0mm, IPC Low Density)
pins: 1 IODVDD (power) "Digital Interface Supply Pin. Digital thresholds are referenced to the voltage applied to this pin. A voltage from 1.71 V to 5.5 V can be applied to this pin.", 2 SDO (hiz) "Serial Data Output. Used to clock data from the input shift register. Data is clocked out on the rising edge of SCLK and is valid on the falling edge of SCLK.", 3 SCLK (in) "Serial Clock Input. Data is clocked into the input shift register on the falling edge of SCLK. This input operates at clock speeds up to 30 MHz.", 4 ~{SYNC} (in) "Frame Synchronization Input, Active Low. This is the frame synchronization signal for the serial interface. When S\Y\N\C\ is low, data is transferred on the falling edge of SCLK. The input shift register data is latched on (See Datasheet)", 5 SDIN (in) "Serial Data Input. Data must be valid on the falling edge of SCLK.", 6 ~{LDAC} (in) "Load DAC Input, Active Low. This pin is used to update the DAC register and, consequently, the output current. If L\D\A\C\ is tied permanently low, the DAC register is updated on the rising edge of S\Y\N\C\. If L\D\A\C\ is (See Datasheet)", 7 FAULT (out) "Fault Alert Output Pin, Active High. This pin is asserted high when a fault is detected. Detectable faults are loss of SPI interface control, communication error (PEC), loop current out of range, insufficient loop voltage, (See Datasheet)", 8 DVDD (power) "3.3 V Digital Power Supply Output. This pin should be decoupled to COM with 100 nF and 4.7 uF capacitors.", 9 ALARM_CURRENT_DIRECTION (in) "Alarm Current Direction Select. This pin is used to select whether the alarm current is upscale (22.8 mA/24 mA) or downscale (3.2 mA). Connecting this pin to DVDD selects an upscale alarm current (22.8 mA/24 mA); connecting (See Datasheet)", 10 RINT/REXT (in) "Current Setting Resistor Select. When this pin is connected to DVDD, the internal current setting resistor is selected. When this pin is connected to COM, the external current setting resistor is selected. An external (See Datasheet)", 11 RANGE0 (in) "Digital Input Pins. These two pins select the loop current range (see the Loop Current Range Selection section).", 12 RANGE1 (in) "Digital Input Pins. These two pins select the loop current range (see the Loop Current Range Selection section).", 13 COM (power) "Ground Reference Pin for the AD5421. It is recommended that a 4.7 V Zener diode be placed between the LOOP- and COM pins. See the Applications Information section for more information.", 14 COM (power) "Ground Reference Pin for the AD5421. It is recommended that a 4.7 V Zener diode be placed between the LOOP- and COM pins. See the Applications Information section for more information.", 15 REG_SEL2 (in) "These three pins together select the regulator output (REGOUT) voltage (see the Voltage Regulator section).", 16 REG_SEL1 (in) "These three pins together select the regulator output (REGOUT) voltage (see the Voltage Regulator section).", 17 REG_SEL0 (in) "These three pins together select the regulator output (REGOUT) voltage (see the Voltage Regulator section).", 18 REFIN (in) "Reference Voltage Input. VREFIN = 2.5 V for specified performance.", 19 REFOUT2 (out) "Internal Reference Voltage Output (1.22 V). It is recommended to connect a 100 nF capacitor from this pin to COM.", 20 REFOUT1 (out) "Internal Reference Voltage Output (2.5 V). It is recommended to connect a 100 nF capacitor from this pin to COM.", 21 CIN (in) "External Capacitor Connection and HART FSK Input. An external capacitor connected from CIN to COM implements an output slew rate control function (see the Loop Current Slew Rate Control section). HART FSK signaling can also (See Datasheet)", 22 REXT1 (in) "Connection for External Current Setting Resistor. A precision 24 k ohm resistor can be connected between these pins for improved performance.", 23 REXT2 (in) "Connection for External Current Setting Resistor. A precision 24 k ohm resistor can be connected between these pins for improved performance.", 24 LOOP- "Loop Current Return Pin.", 25 VLOOP (power) "Voltage Input Pin. Voltage input range is 0 V to 2.5 V. The voltage applied to this pin is digitized to eight bits, which are available in the fault register. This pin can be used for general-purpose voltage monitoring, but (See Datasheet)", 26 DRIVE "Gate Connection for External Depletion Mode MOSFET. For more information, see the Connection to Loop Power Supply section.", 27 REGIN (in) "Voltage Regulator Input. The loop voltage can be connected directly to this pin. Or, to reduce on-chip power dissipation, an external pass transistor can be connected at this pin to stand off the loop voltage. For more (See Datasheet)", 28 REGOUT (out) "Voltage Regulator Output. Pin selectable values are from 1.8 V to 12 V via the REG_SEL0, REG_SEL1, and REG_SEL2 pins (see the Voltage Regulator section).", 29 EP (power) "The exposed paddle should be connected to the same potential as the COM pin and to a copper plane for optimum thermal performance."